# EAGLE library part AD9852 (library kamiki)
CMOS 300MBPS Complete-DDS
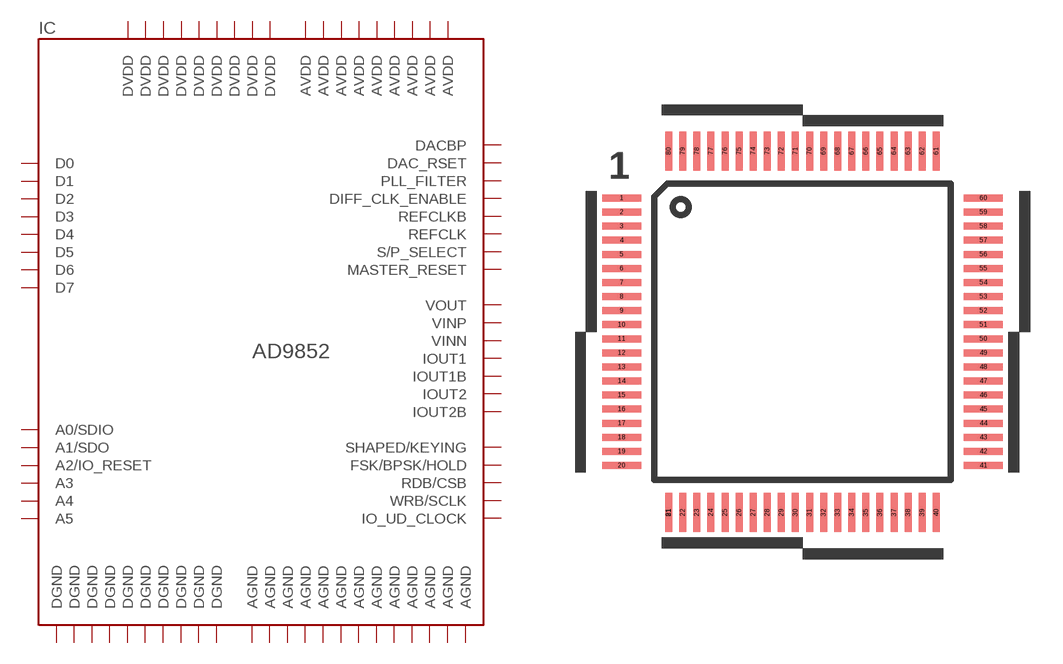
[diagram p5: symbol with the pads of QFP80-16X16; footprint QFP80-16X16]

Designator prefix IC

## AD9852  [QFP80-16X16]
1  D7
2  D6
3  D5
4  D4
5  D3
6  D2
7  D1
8  D0
9  DVDD  pwr
10  DVDD  pwr
11  DGND  pwr
12  DGND  pwr
14  A5  out
15  A4  out
16  A3  out
17  A2/IO_RESET
18  A1/SDO  out
19  A0/SDIO
20  IO_UD_CLOCK
21  WRB/SCLK  in
22  RDB/CSB  in
23  DVDD  pwr
24  DVDD  pwr
25  DVDD  pwr
26  DGND  pwr
27  DGND  pwr
28  DGND  pwr
29  FSK/BPSK/HOLD  in
30  SHAPED/KEYING  in
31  AVDD  pwr
32  AVDD  pwr
33  AGND  pwr
34  AGND  pwr
36  VOUT  pas
37  AVDD  pwr
38  AVDD  pwr
39  AGND  pwr
40  AGND  pwr
41  AGND  pwr
42  VINP  in
43  VINN  in
44  AVDD  pwr
45  AGND  pwr
46  AGND  pwr
47  AGND  pwr
48  IOUT1  out
49  IOUT1B  out
50  AVDD  pwr
51  IOUT2B  out
52  IOUT2  out
53  AGND  pwr
54  AVDD  pwr
55  DACBP  pas
56  DAC_RSET  pas
59  AGND  pwr
60  AVDD  pwr
61  PLL_FILTER  pas
62  AGND  pwr
64  DIFF_CLK_ENABLE  in
65  AVDD  pwr
66  AGND  pwr
67  AGND  pwr
68  REFCLKB  pas
69  REFCLK  pas
70  S/P_SELECT  in
71  MASTER_RESET  in
72  DGND  pwr
73  DVDD  pwr
74  DVDD  pwr
75  DGND  pwr
76  DGND  pwr
77  DGND  pwr
78  DGND  pwr
79  DVDD  pwr
80  DVDD  pwr

## Footprint QFP80-16X16 (pad centres in mm)
QFP80 16mm x 16mm 0.65mm pin pitch for OLIMEX.
smd 1.8 x 0.32: 1 -8.35,6.175; 2 -8.35,5.525; 3 -8.35,4.875; 4 -8.35,4.225; 5 -8.35,3.575; 6 -8.35,2.925; 7 -8.35,2.275; 8 -8.35,1.625; 9 -8.35,0.975; 10 -8.35,0.325; 11 -8.35,-0.325; 12 -8.35,-0.975; 13 -8.35,-1.625; 14 -8.35,-2.275; 15 -8.35,-2.925; 16 -8.35,-3.575; 17 -8.35,-4.225; 18 -8.35,-4.875; 19 -8.35,-5.525; 20 -8.35,-6.175; 41 8.35,-6.175; 42 8.35,-5.525; 43 8.35,-4.875; 44 8.35,-4.225; 45 8.35,-3.575; 46 8.35,-2.925; 47 8.35,-2.275; 48 8.35,-1.625; 49 8.35,-0.975; 50 8.35,-0.325; 51 8.35,0.325; 52 8.35,0.975; 53 8.35,1.625; 54 8.35,2.275; 55 8.35,2.925; 56 8.35,3.575; 57 8.35,4.225; 58 8.35,4.875; 59 8.35,5.525; 60 8.35,6.175
smd 0.32 x 1.8: 21 -6.175,-8.35; 22 -5.525,-8.35; 23 -4.875,-8.35; 24 -4.225,-8.35; 25 -3.575,-8.35; 26 -2.925,-8.35; 27 -2.275,-8.35; 28 -1.625,-8.35; 29 -0.975,-8.35; 30 -0.325,-8.35; 31 0.325,-8.35; 32 0.975,-8.35; 33 1.625,-8.35; 34 2.275,-8.35; 35 2.925,-8.35; 36 3.575,-8.35; 37 4.225,-8.35; 38 4.875,-8.35; 39 5.525,-8.35; 40 6.175,-8.35; 61 6.175,8.35; 62 5.525,8.35; 63 4.875,8.35; 64 4.225,8.35; 65 3.575,8.35; 66 2.925,8.35; 67 2.275,8.35; 68 1.625,8.35; 69 0.975,8.35; 70 0.325,8.35; 71 -0.325,8.35; 72 -0.975,8.35; 73 -1.625,8.35; 74 -2.275,8.35; 75 -2.925,8.35; 76 -3.575,8.35; 77 -4.225,8.35; 78 -4.875,8.35; 79 -5.525,8.35; 80 -6.175,8.35; 81 -6.175,-8.35